# Altium schematic symbol library Sensors & MEMS.SchLib: 81 symbols (part 1 of 2)
Pins are listed as number, name and electrical type; pins without a type are passive.

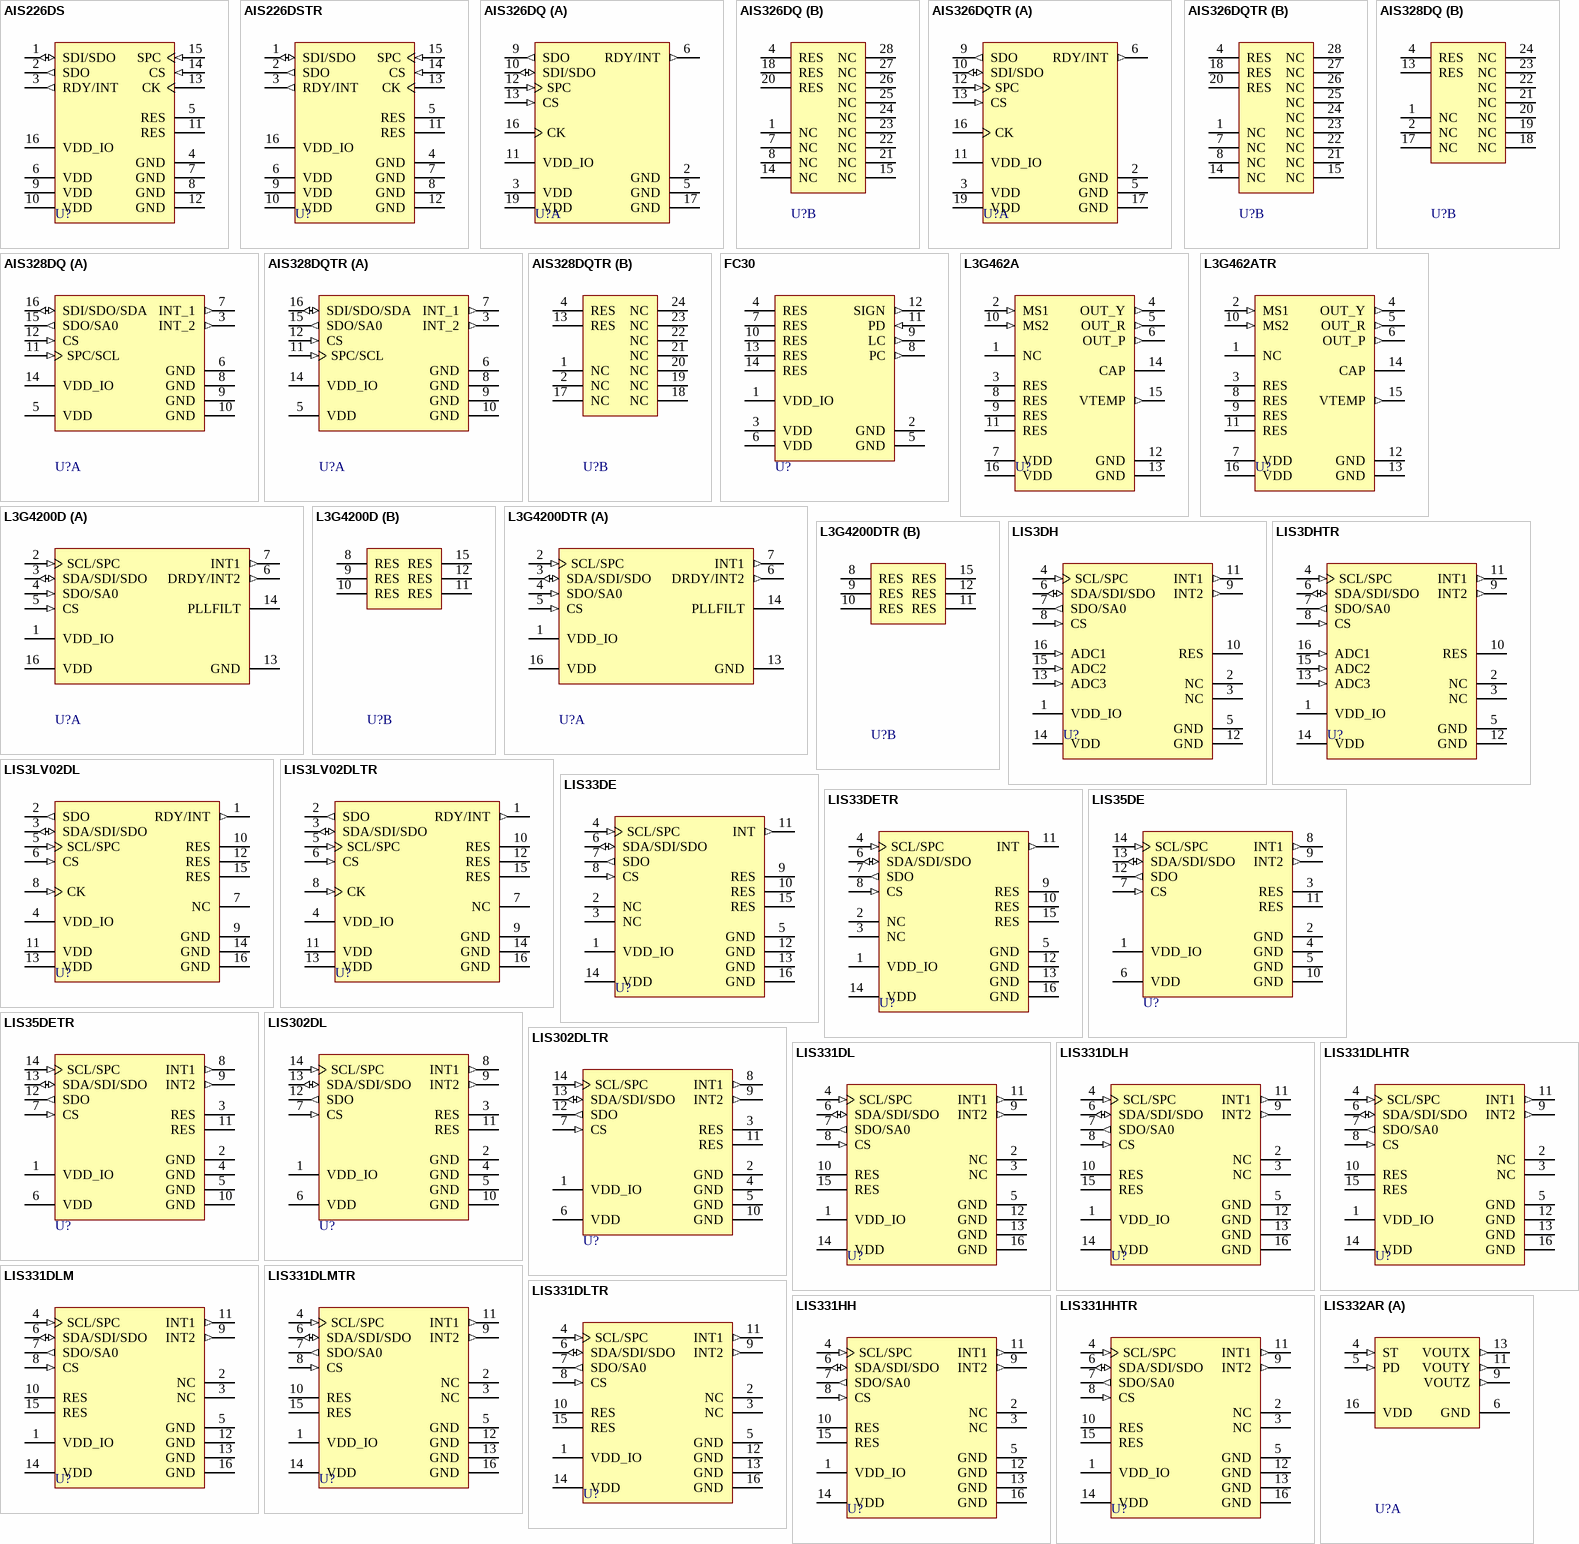
[diagram p0: symbols AIS226DS to LIS332AR]

## AIS226DS
designator U?
MEMS inertial sensor, 2-axis, low-g accelerometer with digital output, -40 to +105°C, SO-16W, Tube; Manufacturer: STMicroelectronics; DatasheetVersion: rev3, Apr-2010; PackageVersion: 2010; PackageReference: SO16W; PackageDescription: 16-Pin Small Outline Integrated Circuit 1.27 mm Pitch; Code_JEDEC: MS-013-AA; Code_IPC: SOIC127P1030-16; ComponentLink1Description: Manufacturer URL; ComponentLink1URL: http://www.st.com/; ComponentLink2Description: AIS226DS Datasheet; ComponentLink2URL: http://www.st.com/internet/com/TECHNICAL_RESOURCES/TECHNICAL_LITERATURE/DATASHEET/CD00216891.pdf; ComponentLink3Description: AIS226DS Web Page; ComponentLink3URL: http://www.st.com/internet/analog/product/219297.jsp
footprint SO16W_N (SOIC, 16-Leads, Body 10.3x7.5mm, Pitch 1.27mm, IPC Medium Density)
footprint SO16W_L (SOIC, 16-Leads, Body 10.3x7.5mm, Pitch 1.27mm, IPC High Density)
footprint SO16W_M (SOIC, 16-Leads, Body 10.3x7.5mm, Pitch 1.27mm, IPC Low Density)
pins: 1 SDI/SDO (io), 2 SDO (out), 3 RDY/INT (out), 4 GND (power), 5 RES, 6 VDD (power), 7 GND (power), 8 GND (power), 9 VDD (power), 10 VDD (power), 11 RES, 12 GND (power), 13 CK, 14 CS (in), 15 SPC (in), 16 VDD_IO (power)

## AIS226DSTR
designator U?
MEMS inertial sensor, 2-axis, low-g accelerometer with digital output, -40 to +105°C, SO-16W, Tape and Reel; Manufacturer: STMicroelectronics; DatasheetVersion: rev3, Apr-2010; PackageVersion: 2010; PackageReference: SO16W; PackageDescription: 16-Pin Small Outline Integrated Circuit 1.27 mm Pitch; Code_JEDEC: MS-013-AA; Code_IPC: SOIC127P1030-16; ComponentLink1Description: Manufacturer URL; ComponentLink1URL: http://www.st.com/; ComponentLink2Description: AIS226DS Datasheet; ComponentLink2URL: http://www.st.com/internet/com/TECHNICAL_RESOURCES/TECHNICAL_LITERATURE/DATASHEET/CD00216891.pdf; ComponentLink3Description: AIS226DS Web Page; ComponentLink3URL: http://www.st.com/internet/analog/product/219297.jsp
footprint SO16W_N (SOIC, 16-Leads, Body 10.3x7.5mm, Pitch 1.27mm, IPC Medium Density)
footprint SO16W_L (SOIC, 16-Leads, Body 10.3x7.5mm, Pitch 1.27mm, IPC High Density)
footprint SO16W_M (SOIC, 16-Leads, Body 10.3x7.5mm, Pitch 1.27mm, IPC Low Density)
pins: 1 SDI/SDO (io), 2 SDO (out), 3 RDY/INT (out), 4 GND (power), 5 RES, 6 VDD (power), 7 GND (power), 8 GND (power), 9 VDD (power), 10 VDD (power), 11 RES, 12 GND (power), 13 CK, 14 CS (in), 15 SPC (in), 16 VDD_IO (power)

## AIS326DQ
designator U?
MEMS inertial sensor, 3-axis, low-g accelerometer with digital output, -40 to +105°C, QFPN-28 (7x7x1.9), Tray; Manufacturer: STMicroelectronics; DatasheetVersion: rev4, Jun-2010; PackageVersion: 2010; PackageReference: QFPN28-7X7X1.8; PackageDescription: 28-Pin Quad Flat No-Lead, 7 x 7 x 1.8 mm Body, 0.8 mm Pitch; ComponentLink1Description: Manufacturer URL; ComponentLink1URL: http://www.st.com/; ComponentLink2Description: AIS326DQ Datasheet; ComponentLink2URL: http://www.st.com/internet/com/TECHNICAL_RESOURCES/TECHNICAL_LITERATURE/DATASHEET/CD00207961.pdf; ComponentLink3Description: AIS326DQ Web Page; ComponentLink3URL: http://www.st.com/internet/analog/product/217375.jsp
footprint QFPN28-7X7X1.9_N (PQFN, 28-Leads, Body 7x7mm, Pitch 0.8mm, Thermal Pad 5.1x5.1mm, IPC Medium Density)
footprint QFPN28-7X7X1.9_L (PQFN, 28-Leads, Body 7x7mm, Pitch 0.8mm, Thermal Pad 5.1x5.1mm, IPC High Density)
footprint QFPN28-7X7X1.9_M (PQFN, 28-Leads, Body 7x7mm, Pitch 0.8mm, Thermal Pad 5.1x5.1mm, IPC Low Density)
part A pins: 2 GND (power), 3 VDD (power), 5 GND (power), 6 RDY/INT (out), 9 SDO (out), 10 SDI/SDO (io), 11 VDD_IO (power), 12 SPC (in), 13 CS (in), 16 CK, 17 GND (power), 19 VDD (power)
part B pins: 1 NC, 4 RES, 7 NC, 8 NC, 14 NC, 15 NC, 18 RES, 20 RES, 21 NC, 22 NC, 23 NC, 24 NC, 25 NC, 26 NC, 27 NC, 28 NC

## AIS326DQTR
designator U?
MEMS inertial sensor, 3-axis, low-g accelerometer with digital output, -40 to +105°C, QFPN-28 (7x7x1.9), Tape and Reel; Manufacturer: STMicroelectronics; DatasheetVersion: rev4, Jun-2010; PackageVersion: 2010; PackageReference: QFPN28-7X7X1.8; PackageDescription: 28-Pin Quad Flat No-Lead, 7 x 7 x 1.8 mm Body, 0.8 mm Pitch; ComponentLink1Description: Manufacturer URL; ComponentLink1URL: http://www.st.com/; ComponentLink2Description: AIS326DQ Datasheet; ComponentLink2URL: http://www.st.com/internet/com/TECHNICAL_RESOURCES/TECHNICAL_LITERATURE/DATASHEET/CD00207961.pdf; ComponentLink3Description: AIS326DQ Web Page; ComponentLink3URL: http://www.st.com/internet/analog/product/217375.jsp
footprint QFPN28-7X7X1.9_N (PQFN, 28-Leads, Body 7x7mm, Pitch 0.8mm, Thermal Pad 5.1x5.1mm, IPC Medium Density)
footprint QFPN28-7X7X1.9_L (PQFN, 28-Leads, Body 7x7mm, Pitch 0.8mm, Thermal Pad 5.1x5.1mm, IPC High Density)
footprint QFPN28-7X7X1.9_M (PQFN, 28-Leads, Body 7x7mm, Pitch 0.8mm, Thermal Pad 5.1x5.1mm, IPC Low Density)
part A pins: 2 GND (power), 3 VDD (power), 5 GND (power), 6 RDY/INT (out), 9 SDO (out), 10 SDI/SDO (io), 11 VDD_IO (power), 12 SPC (in), 13 CS (in), 16 CK, 17 GND (power), 19 VDD (power)
part B pins: 1 NC, 4 RES, 7 NC, 8 NC, 14 NC, 15 NC, 18 RES, 20 RES, 21 NC, 22 NC, 23 NC, 24 NC, 25 NC, 26 NC, 27 NC, 28 NC

## AIS328DQ
designator U?
High-performance ultra low-power 3-axis accelerometer, -40 to +105°C, QFPN 4x4x1.8 24L, Tray; Manufacturer: STMicroelectronics; DatasheetVersion: rev1, Oct-2010; PackageVersion: 2010; PackageReference: QFPN24-4X4X1.8; PackageDescription: 24-Pin Quad Flat Package No-Lead, 4 x 4 x 1.8 mm Body, 0.5 mm Pitch; ComponentLink1Description: Manufacturer URL; ComponentLink1URL: http://www.st.com/; ComponentLink2Description: AIS328DQ Datasheet; ComponentLink2URL: http://www.st.com/internet/com/TECHNICAL_RESOURCES/TECHNICAL_LITERATURE/DATASHEET/CD00289364.pdf; ComponentLink3Description: AIS328DQ Web Page; ComponentLink3URL: http://www.st.com/internet/analog/product/251153.jsp
footprint QFPN24-4X4X1.8_N (QFN, 24-Leads, Body 4x4mm, Pitch 0.5mm, Thermal Pad 2.4x2.4mm, IPC Medium Density)
footprint QFPN24-4X4X1.8_L (QFN, 24-Leads, Body 4x4mm, Pitch 0.5mm, Thermal Pad 2.4x2.4mm, IPC High Density)
footprint QFPN24-4X4X1.8_M (QFN, 24-Leads, Body 4x4mm, Pitch 0.5mm, Thermal Pad 2.4x2.4mm, IPC Low Density)
part A pins: 3 INT_2 (out), 5 VDD (power), 6 GND (power), 7 INT_1 (out), 8 GND (power), 9 GND (power), 10 GND (power), 11 SPC/SCL (in), 12 CS (in), 14 VDD_IO (power), 15 SDO/SA0 (out), 16 SDI/SDO/SDA (io)
part B pins: 1 NC, 2 NC, 4 RES, 13 RES, 17 NC, 18 NC, 19 NC, 20 NC, 21 NC, 22 NC, 23 NC, 24 NC

## AIS328DQTR
designator U?
High-performance ultra low-power 3-axis accelerometer, -40 to +105°C, QFPN 4x4x1.8 24L, Tape and Reel; Manufacturer: STMicroelectronics; DatasheetVersion: rev1, Oct-2010; PackageVersion: 2010; PackageReference: QFPN24-4X4X1.8; PackageDescription: 24-Pin Quad Flat Package No-Lead, 4 x 4 x 1.8 mm Body, 0.5 mm Pitch; ComponentLink1Description: Manufacturer URL; ComponentLink1URL: http://www.st.com/; ComponentLink2Description: AIS328DQ Datasheet; ComponentLink2URL: http://www.st.com/internet/com/TECHNICAL_RESOURCES/TECHNICAL_LITERATURE/DATASHEET/CD00289364.pdf; ComponentLink3Description: AIS328DQ Web Page; ComponentLink3URL: http://www.st.com/internet/analog/product/251153.jsp
footprint QFPN24-4X4X1.8_N (QFN, 24-Leads, Body 4x4mm, Pitch 0.5mm, Thermal Pad 2.4x2.4mm, IPC Medium Density)
footprint QFPN24-4X4X1.8_L (QFN, 24-Leads, Body 4x4mm, Pitch 0.5mm, Thermal Pad 2.4x2.4mm, IPC High Density)
footprint QFPN24-4X4X1.8_M (QFN, 24-Leads, Body 4x4mm, Pitch 0.5mm, Thermal Pad 2.4x2.4mm, IPC Low Density)
part A pins: 3 INT_2 (out), 5 VDD (power), 6 GND (power), 7 INT_1 (out), 8 GND (power), 9 GND (power), 10 GND (power), 11 SPC/SCL (in), 12 CS (in), 14 VDD_IO (power), 15 SDO/SA0 (out), 16 SDI/SDO/SDA (io)
part B pins: 1 NC, 2 NC, 4 RES, 13 RES, 17 NC, 18 NC, 19 NC, 20 NC, 21 NC, 22 NC, 23 NC, 24 NC

## FC30
designator U?
MEMS functional sensor; smart 3D orientation and click detection standalone device, -40 to +85°C, LGA-14 (3x5x0.92), Tray; Manufacturer: STMicroelectronics; DatasheetVersion: rev2, Feb-2010; PackageVersion: 2010; PackageReference: LGA14-3X5X0.92; PackageDescription: 14-Lead Land Grid Array Package, 5 x 3 x 0.92 mm Body, 0.8 mm Pitch; ComponentLink1Description: Manufacturer URL; ComponentLink1URL: http://www.st.com/; ComponentLink2Description: FC30 Datasheet; ComponentLink2URL: http://www.st.com/internet/com/TECHNICAL_RESOURCES/TECHNICAL_LITERATURE/DATASHEET/CD00199092.pdf; ComponentLink3Description: FC30 Web Page; ComponentLink3URL: http://www.st.com/internet/analog/product/215811.jsp
footprint LGA14-3X5X0.92_N (PQFN, 14-Leads, Body 3x5mm, Pitch 0.8mm, IPC Medium Density)
footprint LGA14-3X5X0.92_L (PQFN, 14-Leads, Body 3x5mm, Pitch 0.8mm, IPC High Density)
footprint LGA14-3X5X0.92_M (PQFN, 14-Leads, Body 3x5mm, Pitch 0.8mm, IPC Low Density)
pins: 1 VDD_IO (power), 2 GND (power), 3 VDD (power), 4 RES, 5 GND (power), 6 VDD (power), 7 RES, 8 PC (out), 9 LC (out), 10 RES, 11 PD (in), 12 SIGN (out), 13 RES, 14 RES

## L3G462A
designator U?
MEMS motion sensor: ± 625 dps full scale 3-axis analog gyroscope, -40 to +85°C, LGA-16 (4x4x1.1), Tray; Manufacturer: STMicroelectronics; DatasheetVersion: rev1, Mar-2011; PackageVersion: 2010; PackageReference: LGA16-4X4X1.1; PackageDescription: 16-Pin Land Grid Array Package, 4 x 4 x 1.1 mm Body, 0.65 mm Pitch; ComponentLink1Description: Manufacturer URL; ComponentLink1URL: http://www.st.com/; ComponentLink2Description: L3G462A Datasheet; ComponentLink2URL: http://www.st.com/internet/com/TECHNICAL_RESOURCES/TECHNICAL_LITERATURE/DATASHEET/DM00024645.pdf; ComponentLink3Description: L3G462A Web Page; ComponentLink3URL: http://www.st.com/internet/analog/product/251793.jsp
footprint LGA16-4X4X1.1_N (PQFN, 16-Leads, Body 4x4mm, Pitch 0.65mm, IPC Medium Density)
footprint LGA16-4X4X1.1_L (PQFN, 16-Leads, Body 4x4mm, Pitch 0.65mm, IPC High Density)
footprint LGA16-4X4X1.1_M (PQFN, 16-Leads, Body 4x4mm, Pitch 0.65mm, IPC Low Density)
pins: 1 NC, 2 MS1 (in), 3 RES, 4 OUT_Y (out), 5 OUT_R (out), 6 OUT_P (out), 7 VDD (power), 8 RES, 9 RES, 10 MS2 (in), 11 RES, 12 GND (power), 13 GND (power), 14 CAP, 15 VTEMP (out), 16 VDD (power)

## L3G462ATR
designator U?
MEMS motion sensor: ± 625 dps full scale 3-axis analog gyroscope, -40 to +85°C, LGA-16 (4x4x1.1), Tape and Reel; Manufacturer: STMicroelectronics; DatasheetVersion: rev1, Mar-2011; PackageVersion: 2010; PackageReference: LGA16-4X4X1.1; PackageDescription: 16-Pin Land Grid Array Package, 4 x 4 x 1.1 mm Body, 0.65 mm Pitch; ComponentLink1Description: Manufacturer URL; ComponentLink1URL: http://www.st.com/; ComponentLink2Description: L3G462A Datasheet; ComponentLink2URL: http://www.st.com/internet/com/TECHNICAL_RESOURCES/TECHNICAL_LITERATURE/DATASHEET/DM00024645.pdf; ComponentLink3Description: L3G462A Web Page; ComponentLink3URL: http://www.st.com/internet/analog/product/251793.jsp
footprint LGA16-4X4X1.1_N (PQFN, 16-Leads, Body 4x4mm, Pitch 0.65mm, IPC Medium Density)
footprint LGA16-4X4X1.1_L (PQFN, 16-Leads, Body 4x4mm, Pitch 0.65mm, IPC High Density)
footprint LGA16-4X4X1.1_M (PQFN, 16-Leads, Body 4x4mm, Pitch 0.65mm, IPC Low Density)
pins: 1 NC, 2 MS1 (in), 3 RES, 4 OUT_Y (out), 5 OUT_R (out), 6 OUT_P (out), 7 VDD (power), 8 RES, 9 RES, 10 MS2 (in), 11 RES, 12 GND (power), 13 GND (power), 14 CAP, 15 VTEMP (out), 16 VDD (power)

## L3G4200D
designator U?
MEMS motion sensor: ultra-stable three-axis digital output gyroscope, -40 to +85°C, LGA-16 (4x4x1.1), Tray; Manufacturer: STMicroelectronics; DatasheetVersion: rev3, Dec-2010; PackageVersion: 2010; PackageReference: LGA16-4X4X1.1; PackageDescription: 16-Pin Land Grid Array Package, 4 x 4 x 1.1 mm Body, 0.65 mm Pitch; ComponentLink1Description: Manufacturer URL; ComponentLink1URL: http://www.st.com/; ComponentLink2Description: L3G4200D Datasheet; ComponentLink2URL: http://www.st.com/internet/com/TECHNICAL_RESOURCES/TECHNICAL_LITERATURE/DATASHEET/CD00265057.pdf; ComponentLink3Description: L3G4200D Web Page; ComponentLink3URL: http://www.st.com/internet/analog/product/250373.jsp
footprint LGA16-4X4X1.1_N (PQFN, 16-Leads, Body 4x4mm, Pitch 0.65mm, IPC Medium Density)
footprint LGA16-4X4X1.1_L (PQFN, 16-Leads, Body 4x4mm, Pitch 0.65mm, IPC High Density)
footprint LGA16-4X4X1.1_M (PQFN, 16-Leads, Body 4x4mm, Pitch 0.65mm, IPC Low Density)
part A pins: 1 VDD_IO (power), 2 SCL/SPC (in), 3 SDA/SDI/SDO (io), 4 SDO/SA0 (in), 5 CS (in), 6 DRDY/INT2 (out), 7 INT1 (out), 13 GND (power), 14 PLLFILT, 16 VDD (power)
part B pins: 8 RES, 9 RES, 10 RES, 11 RES, 12 RES, 15 RES

## L3G4200DTR
designator U?
MEMS motion sensor: ultra-stable three-axis digital output gyroscope, -40 to +85°C, LGA-16 (4x4x1.1), Tape and Reel; Manufacturer: STMicroelectronics; DatasheetVersion: rev3, Dec-2010; PackageVersion: 2010; PackageReference: LGA16-4X4X1.1; PackageDescription: 16-Pin Land Grid Array Package, 4 x 4 x 1.1 mm Body, 0.65 mm Pitch; ComponentLink1Description: Manufacturer URL; ComponentLink1URL: http://www.st.com/; ComponentLink2Description: L3G4200D Datasheet; ComponentLink2URL: http://www.st.com/internet/com/TECHNICAL_RESOURCES/TECHNICAL_LITERATURE/DATASHEET/CD00265057.pdf; ComponentLink3Description: L3G4200D Web Page; ComponentLink3URL: http://www.st.com/internet/analog/product/250373.jsp
footprint LGA16-4X4X1.1_N (PQFN, 16-Leads, Body 4x4mm, Pitch 0.65mm, IPC Medium Density)
footprint LGA16-4X4X1.1_L (PQFN, 16-Leads, Body 4x4mm, Pitch 0.65mm, IPC High Density)
footprint LGA16-4X4X1.1_M (PQFN, 16-Leads, Body 4x4mm, Pitch 0.65mm, IPC Low Density)
part A pins: 1 VDD_IO (power), 2 SCL/SPC (in), 3 SDA/SDI/SDO (io), 4 SDO/SA0 (in), 5 CS (in), 6 DRDY/INT2 (out), 7 INT1 (out), 13 GND (power), 14 PLLFILT, 16 VDD (power)
part B pins: 8 RES, 9 RES, 10 RES, 11 RES, 12 RES, 15 RES

## LIS3DH
designator U?
MEMS digital output motion sensor: Ultra low-power high performance 3-axis nano accelerometer, -40 to +85°C, LGA-16 (3x3x1), Tray; Manufacturer: STMicroelectronics; DatasheetVersion: rev1, May-2010; PackageVersion: 2008; PackageReference: LGA16-3X3X1; PackageDescription: 16-Pin Land Grid Array, 3 x 3 x 1 mm Body, 0.5 mm Pitch; ComponentLink1Description: Manufacturer URL; ComponentLink1URL: http://www.st.com/; ComponentLink2Description: LIS3DH Datasheet; ComponentLink2URL: http://www.st.com/internet/com/TECHNICAL_RESOURCES/TECHNICAL_LITERATURE/DATASHEET/CD00274221.pdf; ComponentLink3Description: LIS3DH Web Page; ComponentLink3URL: http://www.st.com/internet/analog/product/250725.jsp
footprint LGA16-3X3X1_N (PQFN, 16-Leads, Body 3x3mm, Pitch 0.5mm, IPC Medium Density)
footprint LGA16-3X3X1_L (PQFN, 16-Leads, Body 3x3mm, Pitch 0.5mm, IPC High Density)
footprint LGA16-3X3X1_M (PQFN, 16-Leads, Body 3x3mm, Pitch 0.5mm, IPC Low Density)
pins: 1 VDD_IO (power), 2 NC, 3 NC, 4 SCL/SPC (in), 5 GND (power), 6 SDA/SDI/SDO (io), 7 SDO/SA0 (out), 8 CS (in), 9 INT2 (out), 10 RES, 11 INT1 (out), 12 GND (power), 13 ADC3 (in), 14 VDD (power), 15 ADC2 (in), 16 ADC1 (in)

## LIS3DHTR
designator U?
MEMS digital output motion sensor: Ultra low-power high performance 3-axis nano accelerometer, -40 to +85°C, LGA-16 (3x3x1), Tape and Reel; Manufacturer: STMicroelectronics; DatasheetVersion: rev1, May-2010; PackageVersion: 2008; PackageReference: LGA16-3X3X1; PackageDescription: 16-Pin Land Grid Array, 3 x 3 x 1 mm Body, 0.5 mm Pitch; ComponentLink1Description: Manufacturer URL; ComponentLink1URL: http://www.st.com/; ComponentLink2Description: LIS3DH Datasheet; ComponentLink2URL: http://www.st.com/internet/com/TECHNICAL_RESOURCES/TECHNICAL_LITERATURE/DATASHEET/CD00274221.pdf; ComponentLink3Description: LIS3DH Web Page; ComponentLink3URL: http://www.st.com/internet/analog/product/250725.jsp
footprint LGA16-3X3X1_N (PQFN, 16-Leads, Body 3x3mm, Pitch 0.5mm, IPC Medium Density)
footprint LGA16-3X3X1_L (PQFN, 16-Leads, Body 3x3mm, Pitch 0.5mm, IPC High Density)
footprint LGA16-3X3X1_M (PQFN, 16-Leads, Body 3x3mm, Pitch 0.5mm, IPC Low Density)
pins: 1 VDD_IO (power), 2 NC, 3 NC, 4 SCL/SPC (in), 5 GND (power), 6 SDA/SDI/SDO (io), 7 SDO/SA0 (out), 8 CS (in), 9 INT2 (out), 10 RES, 11 INT1 (out), 12 GND (power), 13 ADC3 (in), 14 VDD (power), 15 ADC2 (in), 16 ADC1 (in)

## LIS3LV02DL
designator U?
MEMS inertial sensor: 3-axis ± 2g/± 6g digital output low voltage linear accelerometer, -40 to +85°C, LGA-16 (4.4x7.5x1), Tray; Manufacturer: STMicroelectronics; DatasheetVersion: rev2, Jan-2008; PackageVersion: 2008; PackageReference: LGA16-4.4X7.5X1; PackageDescription: 16-Lead Land Grid Array Package, 7.5 x 4.4 x 1 mm Body, 1 mm Pitch; ComponentLink1Description: Manufacturer URL; ComponentLink1URL: http://www.st.com/; ComponentLink2Description: LIS3LV02DL Datasheet; ComponentLink2URL: http://www.st.com/internet/com/TECHNICAL_RESOURCES/TECHNICAL_LITERATURE/DATASHEET/CD00091417.pdf; ComponentLink3Description: LIS3LV02DL Web Page; ComponentLink3URL: http://www.st.com/internet/analog/product/127514.jsp
footprint LGA16-4.4X7.5X1_N (PQFN, 16-Leads, Body 4.4x7.5mm, Pitch 1mm, IPC Medium Density)
footprint LGA16-4.4X7.5X1_L (PQFN, 16-Leads, Body 4.4x7.5mm, Pitch 1mm, IPC High Density)
footprint LGA16-4.4X7.5X1_M (PQFN, 16-Leads, Body 4.4x7.5mm, Pitch 1mm, IPC Low Density)
pins: 1 RDY/INT (out), 2 SDO (out), 3 SDA/SDI/SDO (io), 4 VDD_IO (power), 5 SCL/SPC (in), 6 CS (in), 7 NC, 8 CK (in), 9 GND (power), 10 RES, 11 VDD (power), 12 RES, 13 VDD (power), 14 GND (power), 15 RES, 16 GND (power)

## LIS3LV02DLTR
designator U?
MEMS inertial sensor: 3-axis ± 2g/± 6g digital output low voltage linear accelerometer, -40 to +85°C, LGA-16 (4.4x7.5x1), Tape and Reel; Manufacturer: STMicroelectronics; DatasheetVersion: rev2, Jan-2008; PackageVersion: 2008; PackageReference: LGA16-4.4X7.5X1; PackageDescription: 16-Lead Land Grid Array Package, 7.5 x 4.4 x 1 mm Body, 1 mm Pitch; ComponentLink1Description: Manufacturer URL; ComponentLink1URL: http://www.st.com/; ComponentLink2Description: LIS3LV02DL Datasheet; ComponentLink2URL: http://www.st.com/internet/com/TECHNICAL_RESOURCES/TECHNICAL_LITERATURE/DATASHEET/CD00091417.pdf; ComponentLink3Description: LIS3LV02DL Web Page; ComponentLink3URL: http://www.st.com/internet/analog/product/127514.jsp
footprint LGA16-4.4X7.5X1_N (PQFN, 16-Leads, Body 4.4x7.5mm, Pitch 1mm, IPC Medium Density)
footprint LGA16-4.4X7.5X1_L (PQFN, 16-Leads, Body 4.4x7.5mm, Pitch 1mm, IPC High Density)
footprint LGA16-4.4X7.5X1_M (PQFN, 16-Leads, Body 4.4x7.5mm, Pitch 1mm, IPC Low Density)
pins: 1 RDY/INT (out), 2 SDO (out), 3 SDA/SDI/SDO (io), 4 VDD_IO (power), 5 SCL/SPC (in), 6 CS (in), 7 NC, 8 CK (in), 9 GND (power), 10 RES, 11 VDD (power), 12 RES, 13 VDD (power), 14 GND (power), 15 RES, 16 GND (power)

## LIS33DE
designator U?
MEMS motion sensor: 3-axis ± 2g/± 8g smart digital output nano accelerometer, -40 to +85°C, LGA-16 (3x3x1), Tray; Manufacturer: STMicroelectronics; DatasheetVersion: rev1, Apr-2009; PackageVersion: 2008; PackageReference: LGA16-3X3X1; PackageDescription: 16-Pin Land Grid Array, 3 x 3 x 1 mm Body, 0.5 mm Pitch; ComponentLink1Description: Manufacturer URL; ComponentLink1URL: http://www.st.com/; ComponentLink2Description: LIS33DE Datasheet; ComponentLink2URL: http://www.st.com/internet/com/TECHNICAL_RESOURCES/TECHNICAL_LITERATURE/DATASHEET/CD00231435.pdf; ComponentLink3Description: LIS33DE Web Page; ComponentLink3URL: http://www.st.com/internet/analog/product/217372.jsp
footprint LGA16-3X3X1_N (PQFN, 16-Leads, Body 3x3mm, Pitch 0.5mm, IPC Medium Density)
footprint LGA16-3X3X1_L (PQFN, 16-Leads, Body 3x3mm, Pitch 0.5mm, IPC High Density)
footprint LGA16-3X3X1_M (PQFN, 16-Leads, Body 3x3mm, Pitch 0.5mm, IPC Low Density)
pins: 1 VDD_IO (power), 2 NC, 3 NC, 4 SCL/SPC (in), 5 GND (power), 6 SDA/SDI/SDO (io), 7 SDO (out), 8 CS (in), 9 RES, 10 RES, 11 INT (out), 12 GND (power), 13 GND (power), 14 VDD (power), 15 RES, 16 GND (power)

## LIS33DETR
designator U?
MEMS motion sensor: 3-axis ± 2g/± 8g smart digital output nano accelerometer, -40 to +85°C, LGA-16 (3x3x1), Tape and Reel; Manufacturer: STMicroelectronics; DatasheetVersion: rev1, Apr-2009; PackageVersion: 2008; PackageReference: LGA16-3X3X1; PackageDescription: 16-Pin Land Grid Array, 3 x 3 x 1 mm Body, 0.5 mm Pitch; ComponentLink1Description: Manufacturer URL; ComponentLink1URL: http://www.st.com/; ComponentLink2Description: LIS33DE Datasheet; ComponentLink2URL: http://www.st.com/internet/com/TECHNICAL_RESOURCES/TECHNICAL_LITERATURE/DATASHEET/CD00231435.pdf; ComponentLink3Description: LIS33DE Web Page; ComponentLink3URL: http://www.st.com/internet/analog/product/217372.jsp
footprint LGA16-3X3X1_N (PQFN, 16-Leads, Body 3x3mm, Pitch 0.5mm, IPC Medium Density)
footprint LGA16-3X3X1_L (PQFN, 16-Leads, Body 3x3mm, Pitch 0.5mm, IPC High Density)
footprint LGA16-3X3X1_M (PQFN, 16-Leads, Body 3x3mm, Pitch 0.5mm, IPC Low Density)
pins: 1 VDD_IO (power), 2 NC, 3 NC, 4 SCL/SPC (in), 5 GND (power), 6 SDA/SDI/SDO (io), 7 SDO (out), 8 CS (in), 9 RES, 10 RES, 11 INT (out), 12 GND (power), 13 GND (power), 14 VDD (power), 15 RES, 16 GND (power)

## LIS35DE
designator U?
MEMS motion sensor: 3-axis ± 2g/± 8g smart digital output piccolo accelerometer, -40 to +85°C, LGA-14 (3x5x1), Tray; Manufacturer: STMicroelectronics; DatasheetVersion: rev1, Apr-2009; PackageVersion: 2011; PackageReference: LGA14-3X5X1; PackageDescription: 14-Lead Land Grid Array Package, 5 x 3 x 1 mm Body, 0.8 mm Pitch; ComponentLink1Description: Manufacturer URL; ComponentLink1URL: http://www.st.com/; ComponentLink2Description: LIS35DE Datasheet; ComponentLink2URL: http://www.st.com/internet/com/TECHNICAL_RESOURCES/TECHNICAL_LITERATURE/DATASHEET/CD00231405.pdf; ComponentLink3Description: LIS35DE Web Page; ComponentLink3URL: http://www.st.com/internet/analog/product/217373.jsp
footprint LGA14-3X5X1_N (PQFN, 14-Leads, Body 3x5mm, Pitch 0.8mm, IPC Medium Density)
footprint LGA14-3X5X1_L (PQFN, 14-Leads, Body 3x5mm, Pitch 0.8mm, IPC High Density)
footprint LGA14-3X5X1_M (PQFN, 14-Leads, Body 3x5mm, Pitch 0.8mm, IPC Low Density)
pins: 1 VDD_IO (power), 2 GND (power), 3 RES, 4 GND (power), 5 GND (power), 6 VDD (power), 7 CS (in), 8 INT1 (out), 9 INT2 (out), 10 GND (power), 11 RES, 12 SDO (out), 13 SDA/SDI/SDO (io), 14 SCL/SPC (in)

## LIS35DETR
designator U?
MEMS motion sensor: 3-axis ± 2g/± 8g smart digital output piccolo accelerometer, -40 to +85°C, LGA-14 (3x5x1), Tape and Reel; Manufacturer: STMicroelectronics; DatasheetVersion: rev1, Apr-2009; PackageVersion: 2011; PackageReference: LGA14-3X5X1; PackageDescription: 14-Lead Land Grid Array Package, 5 x 3 x 1 mm Body, 0.8 mm Pitch; ComponentLink1Description: Manufacturer URL; ComponentLink1URL: http://www.st.com/; ComponentLink2Description: LIS35DE Datasheet; ComponentLink2URL: http://www.st.com/internet/com/TECHNICAL_RESOURCES/TECHNICAL_LITERATURE/DATASHEET/CD00231405.pdf; ComponentLink3Description: LIS35DE Web Page; ComponentLink3URL: http://www.st.com/internet/analog/product/217373.jsp
footprint LGA14-3X5X1_N (PQFN, 14-Leads, Body 3x5mm, Pitch 0.8mm, IPC Medium Density)
footprint LGA14-3X5X1_L (PQFN, 14-Leads, Body 3x5mm, Pitch 0.8mm, IPC High Density)
footprint LGA14-3X5X1_M (PQFN, 14-Leads, Body 3x5mm, Pitch 0.8mm, IPC Low Density)
pins: 1 VDD_IO (power), 2 GND (power), 3 RES, 4 GND (power), 5 GND (power), 6 VDD (power), 7 CS (in), 8 INT1 (out), 9 INT2 (out), 10 GND (power), 11 RES, 12 SDO (out), 13 SDA/SDI/SDO (io), 14 SCL/SPC (in)

## LIS302DL
designator U?
MEMS motion sensor 3-axis - ± 2g/± 8g smart digital output piccolo accelerometer, -40 to +85°C, LGA-14 (3x5x1), Tray; Manufacturer: STMicroelectronics; DatasheetVersion: rev4, Oct-2008; PackageVersion: 2011; PackageReference: LGA14-3X5X1; PackageDescription: 14-Lead Land Grid Array Package, 5 x 3 x 1 mm Body, 0.8 mm Pitch; ComponentLink1Description: Manufacturer URL; ComponentLink1URL: http://www.st.com/; ComponentLink2Description: LIS302DL Datasheet; ComponentLink2URL: http://www.st.com/internet/com/TECHNICAL_RESOURCES/TECHNICAL_LITERATURE/DATASHEET/CD00135460.pdf; ComponentLink3Description: LIS302DL Web Page; ComponentLink3URL: http://www.st.com/internet/analog/product/152913.jsp
footprint LGA14-3X5X1_N (PQFN, 14-Leads, Body 3x5mm, Pitch 0.8mm, IPC Medium Density)
footprint LGA14-3X5X1_L (PQFN, 14-Leads, Body 3x5mm, Pitch 0.8mm, IPC High Density)
footprint LGA14-3X5X1_M (PQFN, 14-Leads, Body 3x5mm, Pitch 0.8mm, IPC Low Density)
pins: 1 VDD_IO (power), 2 GND (power), 3 RES, 4 GND (power), 5 GND (power), 6 VDD (power), 7 CS (in), 8 INT1 (out), 9 INT2 (out), 10 GND (power), 11 RES, 12 SDO (out), 13 SDA/SDI/SDO (io), 14 SCL/SPC (in)

## LIS302DLTR
designator U?
MEMS motion sensor 3-axis - ± 2g/± 8g smart digital output piccolo accelerometer, -40 to +85°C, LGA-14 (3x5x1), Tape and Reel; Manufacturer: STMicroelectronics; DatasheetVersion: rev4, Oct-2008; PackageVersion: 2011; PackageReference: LGA14-3X5X1; PackageDescription: 14-Lead Land Grid Array Package, 5 x 3 x 1 mm Body, 0.8 mm Pitch; ComponentLink1Description: Manufacturer URL; ComponentLink1URL: http://www.st.com/; ComponentLink2Description: LIS302DL Datasheet; ComponentLink2URL: http://www.st.com/internet/com/TECHNICAL_RESOURCES/TECHNICAL_LITERATURE/DATASHEET/CD00135460.pdf; ComponentLink3Description: LIS302DL Web Page; ComponentLink3URL: http://www.st.com/internet/analog/product/152913.jsp
footprint LGA14-3X5X1_N (PQFN, 14-Leads, Body 3x5mm, Pitch 0.8mm, IPC Medium Density)
footprint LGA14-3X5X1_L (PQFN, 14-Leads, Body 3x5mm, Pitch 0.8mm, IPC High Density)
footprint LGA14-3X5X1_M (PQFN, 14-Leads, Body 3x5mm, Pitch 0.8mm, IPC Low Density)
pins: 1 VDD_IO (power), 2 GND (power), 3 RES, 4 GND (power), 5 GND (power), 6 VDD (power), 7 CS (in), 8 INT1 (out), 9 INT2 (out), 10 GND (power), 11 RES, 12 SDO (out), 13 SDA/SDI/SDO (io), 14 SCL/SPC (in)

## LIS331DL
designator U?
MEMS motion sensor 3-axis - ± 2g/± 8g smart digital output nano accelerometer, -40 to +85°C, LGA-16 (3x3x1), Tray; Manufacturer: STMicroelectronics; DatasheetVersion: rev3, Apr-2008; PackageVersion: 2008; PackageReference: LGA16-3X3X1; PackageDescription: 16-Pin Land Grid Array, 3 x 3 x 1 mm Body, 0.5 mm Pitch; ComponentLink1Description: Manufacturer URL; ComponentLink1URL: http://www.st.com/; ComponentLink2Description: LIS331DL Datasheet; ComponentLink2URL: http://www.st.com/internet/com/TECHNICAL_RESOURCES/TECHNICAL_LITERATURE/DATASHEET/CD00172345.pdf; ComponentLink3Description: LIS331DL Web Page; ComponentLink3URL: http://www.st.com/internet/analog/product/191236.jsp
footprint LGA16-3X3X1_N (PQFN, 16-Leads, Body 3x3mm, Pitch 0.5mm, IPC Medium Density)
footprint LGA16-3X3X1_L (PQFN, 16-Leads, Body 3x3mm, Pitch 0.5mm, IPC High Density)
footprint LGA16-3X3X1_M (PQFN, 16-Leads, Body 3x3mm, Pitch 0.5mm, IPC Low Density)
pins: 1 VDD_IO (power), 2 NC, 3 NC, 4 SCL/SPC (in), 5 GND (power), 6 SDA/SDI/SDO (io), 7 SDO/SA0 (out), 8 CS (in), 9 INT2 (out), 10 RES, 11 INT1 (out), 12 GND (power), 13 GND (power), 14 VDD (power), 15 RES, 16 GND (power)

## LIS331DLH
designator U?
MEMS motion sensor: Ultra low power high performance 3-axis nano accelerometer, -40 to +85°C, LGA-16 (3x3x1), Tray; Manufacturer: STMicroelectronics; DatasheetVersion: rev3, Jul-2009; PackageVersion: 2008; PackageReference: LGA16-3X3X1; PackageDescription: 16-Pin Land Grid Array, 3 x 3 x 1 mm Body, 0.5 mm Pitch; ComponentLink1Description: Manufacturer URL; ComponentLink1URL: http://www.st.com/; ComponentLink2Description: LIS331DLH Datasheet; ComponentLink2URL: http://www.st.com/internet/com/TECHNICAL_RESOURCES/TECHNICAL_LITERATURE/DATASHEET/CD00213470.pdf; ComponentLink3Description: LIS331DLH Web Page; ComponentLink3URL: http://www.st.com/internet/analog/product/218132.jsp
footprint LGA16-3X3X1_N (PQFN, 16-Leads, Body 3x3mm, Pitch 0.5mm, IPC Medium Density)
footprint LGA16-3X3X1_L (PQFN, 16-Leads, Body 3x3mm, Pitch 0.5mm, IPC High Density)
footprint LGA16-3X3X1_M (PQFN, 16-Leads, Body 3x3mm, Pitch 0.5mm, IPC Low Density)
pins: 1 VDD_IO (power), 2 NC, 3 NC, 4 SCL/SPC (in), 5 GND (power), 6 SDA/SDI/SDO (io), 7 SDO/SA0 (out), 8 CS (in), 9 INT2 (out), 10 RES, 11 INT1 (out), 12 GND (power), 13 GND (power), 14 VDD (power), 15 RES, 16 GND (power)

## LIS331DLHTR
designator U?
MEMS motion sensor: Ultra low power high performance 3-axis nano accelerometer, -40 to +85°C, LGA-16 (3x3x1), Tape and Reel; Manufacturer: STMicroelectronics; DatasheetVersion: rev3, Jul-2009; PackageVersion: 2008; PackageReference: LGA16-3X3X1; PackageDescription: 16-Pin Land Grid Array, 3 x 3 x 1 mm Body, 0.5 mm Pitch; ComponentLink1Description: Manufacturer URL; ComponentLink1URL: http://www.st.com/; ComponentLink2Description: LIS331DLH Datasheet; ComponentLink2URL: http://www.st.com/internet/com/TECHNICAL_RESOURCES/TECHNICAL_LITERATURE/DATASHEET/CD00213470.pdf; ComponentLink3Description: LIS331DLH Web Page; ComponentLink3URL: http://www.st.com/internet/analog/product/218132.jsp
footprint LGA16-3X3X1_N (PQFN, 16-Leads, Body 3x3mm, Pitch 0.5mm, IPC Medium Density)
footprint LGA16-3X3X1_L (PQFN, 16-Leads, Body 3x3mm, Pitch 0.5mm, IPC High Density)
footprint LGA16-3X3X1_M (PQFN, 16-Leads, Body 3x3mm, Pitch 0.5mm, IPC Low Density)
pins: 1 VDD_IO (power), 2 NC, 3 NC, 4 SCL/SPC (in), 5 GND (power), 6 SDA/SDI/SDO (io), 7 SDO/SA0 (out), 8 CS (in), 9 INT2 (out), 10 RES, 11 INT1 (out), 12 GND (power), 13 GND (power), 14 VDD (power), 15 RES, 16 GND (power)

## LIS331DLM
designator U?
MEMS motion sensor: Ultra low power 8bit 3-axis digital accelerometer, -40 to +85°C, LGA-16 (3x3x1), Tray; Manufacturer: STMicroelectronics; DatasheetVersion: rev4, Jul-2009; PackageVersion: 2008; PackageReference: LGA16-3X3X1; PackageDescription: 16-Pin Land Grid Array, 3 x 3 x 1 mm Body, 0.5 mm Pitch; ComponentLink1Description: Manufacturer URL; ComponentLink1URL: http://www.st.com/; ComponentLink2Description: LIS331DLM Datasheet; ComponentLink2URL: http://www.st.com/internet/com/TECHNICAL_RESOURCES/TECHNICAL_LITERATURE/DATASHEET/CD00213611.pdf; ComponentLink3Description: LIS331DLM Web Page; ComponentLink3URL: http://www.st.com/internet/analog/product/218133.jsp
footprint LGA16-3X3X1_N (PQFN, 16-Leads, Body 3x3mm, Pitch 0.5mm, IPC Medium Density)
footprint LGA16-3X3X1_L (PQFN, 16-Leads, Body 3x3mm, Pitch 0.5mm, IPC High Density)
footprint LGA16-3X3X1_M (PQFN, 16-Leads, Body 3x3mm, Pitch 0.5mm, IPC Low Density)
pins: 1 VDD_IO (power), 2 NC, 3 NC, 4 SCL/SPC (in), 5 GND (power), 6 SDA/SDI/SDO (io), 7 SDO/SA0 (out), 8 CS (in), 9 INT2 (out), 10 RES, 11 INT1 (out), 12 GND (power), 13 GND (power), 14 VDD (power), 15 RES, 16 GND (power)

## LIS331DLMTR
designator U?
MEMS motion sensor: Ultra low power 8bit 3-axis digital accelerometer, -40 to +85°C, LGA-16 (3x3x1), Tape and Reel; Manufacturer: STMicroelectronics; DatasheetVersion: rev4, Jul-2009; PackageVersion: 2008; PackageReference: LGA16-3X3X1; PackageDescription: 16-Pin Land Grid Array, 3 x 3 x 1 mm Body, 0.5 mm Pitch; ComponentLink1Description: Manufacturer URL; ComponentLink1URL: http://www.st.com/; ComponentLink2Description: LIS331DLM Datasheet; ComponentLink2URL: http://www.st.com/internet/com/TECHNICAL_RESOURCES/TECHNICAL_LITERATURE/DATASHEET/CD00213611.pdf; ComponentLink3Description: LIS331DLM Web Page; ComponentLink3URL: http://www.st.com/internet/analog/product/218133.jsp
footprint LGA16-3X3X1_N (PQFN, 16-Leads, Body 3x3mm, Pitch 0.5mm, IPC Medium Density)
footprint LGA16-3X3X1_L (PQFN, 16-Leads, Body 3x3mm, Pitch 0.5mm, IPC High Density)
footprint LGA16-3X3X1_M (PQFN, 16-Leads, Body 3x3mm, Pitch 0.5mm, IPC Low Density)
pins: 1 VDD_IO (power), 2 NC, 3 NC, 4 SCL/SPC (in), 5 GND (power), 6 SDA/SDI/SDO (io), 7 SDO/SA0 (out), 8 CS (in), 9 INT2 (out), 10 RES, 11 INT1 (out), 12 GND (power), 13 GND (power), 14 VDD (power), 15 RES, 16 GND (power)

## LIS331DLTR
designator U?
MEMS motion sensor 3-axis - ± 2g/± 8g smart digital output nano accelerometer, -40 to +85°C, LGA-16 (3x3x1), Tape and Reel; Manufacturer: STMicroelectronics; DatasheetVersion: rev3, Apr-2008; PackageVersion: 2008; PackageReference: LGA16-3X3X1; PackageDescription: 16-Pin Land Grid Array, 3 x 3 x 1 mm Body, 0.5 mm Pitch; ComponentLink1Description: Manufacturer URL; ComponentLink1URL: http://www.st.com/; ComponentLink2Description: LIS331DL Datasheet; ComponentLink2URL: http://www.st.com/internet/com/TECHNICAL_RESOURCES/TECHNICAL_LITERATURE/DATASHEET/CD00172345.pdf; ComponentLink3Description: LIS331DL Web Page; ComponentLink3URL: http://www.st.com/internet/analog/product/191236.jsp
footprint LGA16-3X3X1_N (PQFN, 16-Leads, Body 3x3mm, Pitch 0.5mm, IPC Medium Density)
footprint LGA16-3X3X1_L (PQFN, 16-Leads, Body 3x3mm, Pitch 0.5mm, IPC High Density)
footprint LGA16-3X3X1_M (PQFN, 16-Leads, Body 3x3mm, Pitch 0.5mm, IPC Low Density)
pins: 1 VDD_IO (power), 2 NC, 3 NC, 4 SCL/SPC (in), 5 GND (power), 6 SDA/SDI/SDO (io), 7 SDO/SA0 (out), 8 CS (in), 9 INT2 (out), 10 RES, 11 INT1 (out), 12 GND (power), 13 GND (power), 14 VDD (power), 15 RES, 16 GND (power)

## LIS331HH
designator U?
MEMS digital output motion sensor: Ultra low-power high full-scale 3-axes nano accelerometer, -40 to +85°C, LGA-16 (3x3x1), Tray; Manufacturer: STMicroelectronics; DatasheetVersion: rev1, Oct-2009; PackageVersion: 2008; PackageReference: LGA16-3X3X1; PackageDescription: 16-Pin Land Grid Array, 3 x 3 x 1 mm Body, 0.5 mm Pitch; ComponentLink1Description: Manufacturer URL; ComponentLink1URL: http://www.st.com/; ComponentLink2Description: LIS331HH Datasheet; ComponentLink2URL: http://www.st.com/internet/com/TECHNICAL_RESOURCES/TECHNICAL_LITERATURE/DATASHEET/CD00250937.pdf; ComponentLink3Description: LIS331HH Web Page; ComponentLink3URL: http://www.st.com/internet/analog/product/247976.jsp
footprint LGA16-3X3X1_N (PQFN, 16-Leads, Body 3x3mm, Pitch 0.5mm, IPC Medium Density)
footprint LGA16-3X3X1_L (PQFN, 16-Leads, Body 3x3mm, Pitch 0.5mm, IPC High Density)
footprint LGA16-3X3X1_M (PQFN, 16-Leads, Body 3x3mm, Pitch 0.5mm, IPC Low Density)
pins: 1 VDD_IO (power), 2 NC, 3 NC, 4 SCL/SPC (in), 5 GND (power), 6 SDA/SDI/SDO (io), 7 SDO/SA0 (out), 8 CS (in), 9 INT2 (out), 10 RES, 11 INT1 (out), 12 GND (power), 13 GND (power), 14 VDD (power), 15 RES, 16 GND (power)

## LIS331HHTR
designator U?
MEMS digital output motion sensor: Ultra low-power high full-scale 3-axes nano accelerometer, -40 to +85°C, LGA-16 (3x3x1), Tape and Reel; Manufacturer: STMicroelectronics; DatasheetVersion: rev1, Oct-2009; PackageVersion: 2008; PackageReference: LGA16-3X3X1; PackageDescription: 16-Pin Land Grid Array, 3 x 3 x 1 mm Body, 0.5 mm Pitch; ComponentLink1Description: Manufacturer URL; ComponentLink1URL: http://www.st.com/; ComponentLink2Description: LIS331HH Datasheet; ComponentLink2URL: http://www.st.com/internet/com/TECHNICAL_RESOURCES/TECHNICAL_LITERATURE/DATASHEET/CD00250937.pdf; ComponentLink3Description: LIS331HH Web Page; ComponentLink3URL: http://www.st.com/internet/analog/product/247976.jsp
footprint LGA16-3X3X1_N (PQFN, 16-Leads, Body 3x3mm, Pitch 0.5mm, IPC Medium Density)
footprint LGA16-3X3X1_L (PQFN, 16-Leads, Body 3x3mm, Pitch 0.5mm, IPC High Density)
footprint LGA16-3X3X1_M (PQFN, 16-Leads, Body 3x3mm, Pitch 0.5mm, IPC Low Density)
pins: 1 VDD_IO (power), 2 NC, 3 NC, 4 SCL/SPC (in), 5 GND (power), 6 SDA/SDI/SDO (io), 7 SDO/SA0 (out), 8 CS (in), 9 INT2 (out), 10 RES, 11 INT1 (out), 12 GND (power), 13 GND (power), 14 VDD (power), 15 RES, 16 GND (power)

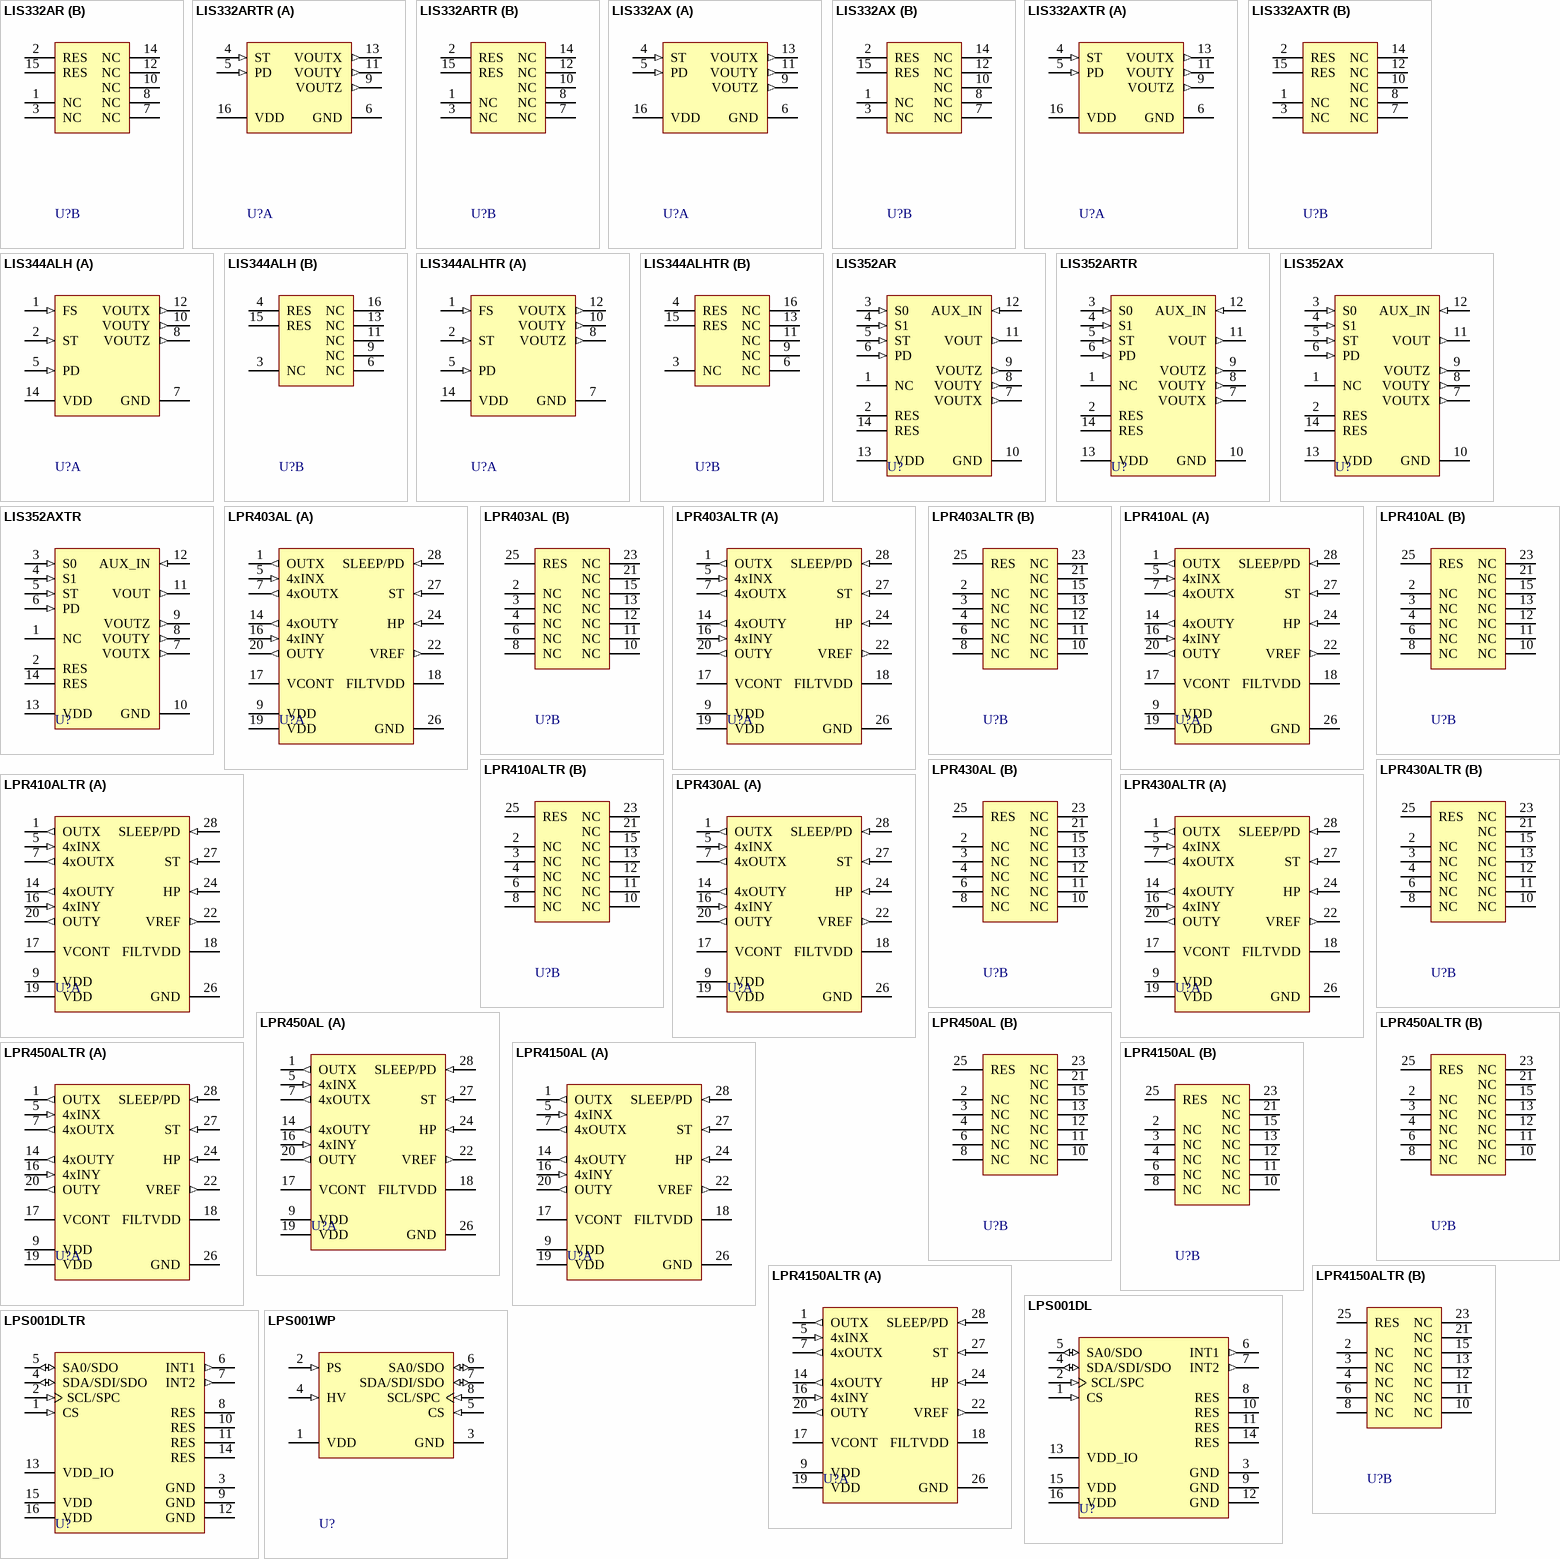
[diagram p1: symbols LIS332AR to LPS001WP]

## LIS332AR
designator U?
MEMS motion sensor: 3-axis ± 2g analog-output ultracompact accelerometer, -40 to +85°C, LGA-16 (3x3x1), Tray; Manufacturer: STMicroelectronics; DatasheetVersion: rev1, Feb-2010; PackageVersion: 2008; PackageReference: LGA16-3X3X1; PackageDescription: 16-Pin Land Grid Array, 3 x 3 x 1 mm Body, 0.5 mm Pitch; ComponentLink1Description: Manufacturer URL; ComponentLink1URL: http://www.st.com/; ComponentLink2Description: LIS332AR Datasheet; ComponentLink2URL: http://www.st.com/internet/com/TECHNICAL_RESOURCES/TECHNICAL_LITERATURE/DATASHEET/CD00259964.pdf; ComponentLink3Description: LIS332AR Web Page; ComponentLink3URL: http://www.st.com/internet/analog/product/250146.jsp
footprint LGA16-3X3X1_N (PQFN, 16-Leads, Body 3x3mm, Pitch 0.5mm, IPC Medium Density)
footprint LGA16-3X3X1_L (PQFN, 16-Leads, Body 3x3mm, Pitch 0.5mm, IPC High Density)
footprint LGA16-3X3X1_M (PQFN, 16-Leads, Body 3x3mm, Pitch 0.5mm, IPC Low Density)
part A pins: 4 ST (in), 5 PD (in), 6 GND (power), 9 VOUTZ (out), 11 VOUTY (out), 13 VOUTX (out), 16 VDD (power)
part B pins: 1 NC, 2 RES, 3 NC, 7 NC, 8 NC, 10 NC, 12 NC, 14 NC, 15 RES

## LIS332ARTR
designator U?
MEMS motion sensor: 3-axis ± 2g analog-output ultracompact accelerometer, -40 to +85°C, LGA-16 (3x3x1), Tape and Reel; Manufacturer: STMicroelectronics; DatasheetVersion: rev1, Feb-2010; PackageVersion: 2008; PackageReference: LGA16-3X3X1; PackageDescription: 16-Pin Land Grid Array, 3 x 3 x 1 mm Body, 0.5 mm Pitch; ComponentLink1Description: Manufacturer URL; ComponentLink1URL: http://www.st.com/; ComponentLink2Description: LIS332AR Datasheet; ComponentLink2URL: http://www.st.com/internet/com/TECHNICAL_RESOURCES/TECHNICAL_LITERATURE/DATASHEET/CD00259964.pdf; ComponentLink3Description: LIS332AR Web Page; ComponentLink3URL: http://www.st.com/internet/analog/product/250146.jsp
footprint LGA16-3X3X1_N (PQFN, 16-Leads, Body 3x3mm, Pitch 0.5mm, IPC Medium Density)
footprint LGA16-3X3X1_L (PQFN, 16-Leads, Body 3x3mm, Pitch 0.5mm, IPC High Density)
footprint LGA16-3X3X1_M (PQFN, 16-Leads, Body 3x3mm, Pitch 0.5mm, IPC Low Density)
part A pins: 4 ST (in), 5 PD (in), 6 GND (power), 9 VOUTZ (out), 11 VOUTY (out), 13 VOUTX (out), 16 VDD (power)
part B pins: 1 NC, 2 RES, 3 NC, 7 NC, 8 NC, 10 NC, 12 NC, 14 NC, 15 RES

## LIS332AX
designator U?
MEMS inertial sensor: 3-axis ± 2g analog-output ultracompact accelerometer, -40 to +85°C, LGA-16 (3x3x1), Tray; Manufacturer: STMicroelectronics; DatasheetVersion: rev1, Feb-2010; PackageVersion: 2008; PackageReference: LGA16-3X3X1; PackageDescription: 16-Pin Land Grid Array, 3 x 3 x 1 mm Body, 0.5 mm Pitch; ComponentLink1Description: Manufacturer URL; ComponentLink1URL: http://www.st.com/; ComponentLink2Description: LIS332AX Datasheet; ComponentLink2URL: http://www.st.com/internet/com/TECHNICAL_RESOURCES/TECHNICAL_LITERATURE/DATASHEET/CD00259970.pdf; ComponentLink3Description: LIS332AX Web Page; ComponentLink3URL: http://www.st.com/internet/analog/product/250148.jsp
footprint LGA16-3X3X1_N (PQFN, 16-Leads, Body 3x3mm, Pitch 0.5mm, IPC Medium Density)
footprint LGA16-3X3X1_L (PQFN, 16-Leads, Body 3x3mm, Pitch 0.5mm, IPC High Density)
footprint LGA16-3X3X1_M (PQFN, 16-Leads, Body 3x3mm, Pitch 0.5mm, IPC Low Density)
part A pins: 4 ST (in), 5 PD (in), 6 GND (power), 9 VOUTZ (out), 11 VOUTY (out), 13 VOUTX (out), 16 VDD (power)
part B pins: 1 NC, 2 RES, 3 NC, 7 NC, 8 NC, 10 NC, 12 NC, 14 NC, 15 RES

## LIS332AXTR
designator U?
MEMS inertial sensor: 3-axis ± 2g analog-output ultracompact accelerometer, -40 to +85°C, LGA-16 (3x3x1), Tape and Reel; Manufacturer: STMicroelectronics; DatasheetVersion: rev1, Feb-2010; PackageVersion: 2008; PackageReference: LGA16-3X3X1; PackageDescription: 16-Pin Land Grid Array, 3 x 3 x 1 mm Body, 0.5 mm Pitch; ComponentLink1Description: Manufacturer URL; ComponentLink1URL: http://www.st.com/; ComponentLink2Description: LIS332AX Datasheet; ComponentLink2URL: http://www.st.com/internet/com/TECHNICAL_RESOURCES/TECHNICAL_LITERATURE/DATASHEET/CD00259970.pdf; ComponentLink3Description: LIS332AX Web Page; ComponentLink3URL: http://www.st.com/internet/analog/product/250148.jsp
footprint LGA16-3X3X1_N (PQFN, 16-Leads, Body 3x3mm, Pitch 0.5mm, IPC Medium Density)
footprint LGA16-3X3X1_L (PQFN, 16-Leads, Body 3x3mm, Pitch 0.5mm, IPC High Density)
footprint LGA16-3X3X1_M (PQFN, 16-Leads, Body 3x3mm, Pitch 0.5mm, IPC Low Density)
part A pins: 4 ST (in), 5 PD (in), 6 GND (power), 9 VOUTZ (out), 11 VOUTY (out), 13 VOUTX (out), 16 VDD (power)
part B pins: 1 NC, 2 RES, 3 NC, 7 NC, 8 NC, 10 NC, 12 NC, 14 NC, 15 RES

## LIS344ALH
designator U?
MEMS inertial sensor: High performance 3-axis ±2/ ±6g ultracompact linear accelerometer, -40 to +85°C, LLGA-16 (4x4x1.5), Tray; Manufacturer: STMicroelectronics; DatasheetVersion: rev3, Apr-2008; PackageVersion: 2008; PackageReference: LGA16-4X4X1.5; PackageDescription: 16-Pin Land Grid Array Package, 4 x 4 x 1.5 mm Body, 0.65 mm Pitch; ComponentLink1Description: Manufacturer URL; ComponentLink1URL: http://www.st.com/; ComponentLink2Description: LIS344ALH Datasheet; ComponentLink2URL: http://www.st.com/internet/com/TECHNICAL_RESOURCES/TECHNICAL_LITERATURE/DATASHEET/CD00182781.pdf; ComponentLink3Description: LIS344ALH Web Page; ComponentLink3URL: http://www.st.com/internet/analog/product/207281.jsp
footprint LGA16-4X4X1.5_N (PQFN, 16-Leads, Body 4x4mm, Pitch 0.65mm, IPC Medium Density)
footprint LGA16-4X4X1.5_L (PQFN, 16-Leads, Body 4x4mm, Pitch 0.65mm, IPC High Density)
footprint LGA16-4X4X1.5_M (PQFN, 16-Leads, Body 4x4mm, Pitch 0.65mm, IPC Low Density)
part A pins: 1 FS (in), 2 ST (in), 5 PD (in), 7 GND (power), 8 VOUTZ (out), 10 VOUTY (out), 12 VOUTX (out), 14 VDD (power)
part B pins: 3 NC, 4 RES, 6 NC, 9 NC, 11 NC, 13 NC, 15 RES, 16 NC

## LIS344ALHTR
designator U?
MEMS inertial sensor: High performance 3-axis ±2/ ±6g ultracompact linear accelerometer, -40 to +85°C, LLGA-16 (4x4x1.5), Tape and Reel; Manufacturer: STMicroelectronics; DatasheetVersion: rev3, Apr-2008; PackageVersion: 2008; PackageReference: LGA16-4X4X1.5; PackageDescription: 16-Pin Land Grid Array Package, 4 x 4 x 1.5 mm Body, 0.65 mm Pitch; ComponentLink1Description: Manufacturer URL; ComponentLink1URL: http://www.st.com/; ComponentLink2Description: LIS344ALH Datasheet; ComponentLink2URL: http://www.st.com/internet/com/TECHNICAL_RESOURCES/TECHNICAL_LITERATURE/DATASHEET/CD00182781.pdf; ComponentLink3Description: LIS344ALH Web Page; ComponentLink3URL: http://www.st.com/internet/analog/product/207281.jsp
footprint LGA16-4X4X1.5_N (PQFN, 16-Leads, Body 4x4mm, Pitch 0.65mm, IPC Medium Density)
footprint LGA16-4X4X1.5_L (PQFN, 16-Leads, Body 4x4mm, Pitch 0.65mm, IPC High Density)
footprint LGA16-4X4X1.5_M (PQFN, 16-Leads, Body 4x4mm, Pitch 0.65mm, IPC Low Density)
part A pins: 1 FS (in), 2 ST (in), 5 PD (in), 7 GND (power), 8 VOUTZ (out), 10 VOUTY (out), 12 VOUTX (out), 14 VDD (power)
part B pins: 3 NC, 4 RES, 6 NC, 9 NC, 11 NC, 13 NC, 15 RES, 16 NC

## LIS352AR
designator U?
MEMS motion sensor: 3-axis ±2 g analog-output piccolo accelerometer , -40 to +85°C, LGA-14 (3x5x1), Tray; Manufacturer: STMicroelectronics; DatasheetVersion: rev1, Feb-2010; PackageVersion: 2011; PackageReference: LGA14-3X5X1; PackageDescription: 14-Lead Land Grid Array Package, 5 x 3 x 1 mm Body, 0.8 mm Pitch; ComponentLink1Description: Manufacturer URL; ComponentLink1URL: http://www.st.com/; ComponentLink2Description: LIS352AR Datasheet; ComponentLink2URL: http://www.st.com/internet/com/TECHNICAL_RESOURCES/TECHNICAL_LITERATURE/DATASHEET/CD00259979.pdf; ComponentLink3Description: LIS352AR Web Page; ComponentLink3URL: http://www.st.com/internet/analog/product/250147.jsp
footprint LGA14-3X5X1_N (PQFN, 14-Leads, Body 3x5mm, Pitch 0.8mm, IPC Medium Density)
footprint LGA14-3X5X1_L (PQFN, 14-Leads, Body 3x5mm, Pitch 0.8mm, IPC High Density)
footprint LGA14-3X5X1_M (PQFN, 14-Leads, Body 3x5mm, Pitch 0.8mm, IPC Low Density)
pins: 1 NC, 2 RES, 3 S0 (in), 4 S1 (in), 5 ST (in), 6 PD (in), 7 VOUTX (out), 8 VOUTY (out), 9 VOUTZ (out), 10 GND (power), 11 VOUT (out), 12 AUX_IN (in), 13 VDD (power), 14 RES

## LIS352ARTR
designator U?
MEMS motion sensor: 3-axis ±2 g analog-output piccolo accelerometer , -40 to +85°C, LGA-14 (3x5x1), Tape and Reel; Manufacturer: STMicroelectronics; DatasheetVersion: rev1, Feb-2010; PackageVersion: 2011; PackageReference: LGA14-3X5X1; PackageDescription: 14-Lead Land Grid Array Package, 5 x 3 x 1 mm Body, 0.8 mm Pitch; ComponentLink1Description: Manufacturer URL; ComponentLink1URL: http://www.st.com/; ComponentLink2Description: LIS352AR Datasheet; ComponentLink2URL: http://www.st.com/internet/com/TECHNICAL_RESOURCES/TECHNICAL_LITERATURE/DATASHEET/CD00259979.pdf; ComponentLink3Description: LIS352AR Web Page; ComponentLink3URL: http://www.st.com/internet/analog/product/250147.jsp
footprint LGA14-3X5X1_N (PQFN, 14-Leads, Body 3x5mm, Pitch 0.8mm, IPC Medium Density)
footprint LGA14-3X5X1_L (PQFN, 14-Leads, Body 3x5mm, Pitch 0.8mm, IPC High Density)
footprint LGA14-3X5X1_M (PQFN, 14-Leads, Body 3x5mm, Pitch 0.8mm, IPC Low Density)
pins: 1 NC, 2 RES, 3 S0 (in), 4 S1 (in), 5 ST (in), 6 PD (in), 7 VOUTX (out), 8 VOUTY (out), 9 VOUTZ (out), 10 GND (power), 11 VOUT (out), 12 AUX_IN (in), 13 VDD (power), 14 RES

## LIS352AX
designator U?
MEMS inertial sensor: 3-axis ±2 g absolute analog output piccolo accelerometer, -40 to +85°C, LGA-14 (3x5x1), Tray; Manufacturer: STMicroelectronics; DatasheetVersion: rev2, Feb-2010; PackageVersion: 2011; PackageReference: LGA14-3X5X1; PackageDescription: 14-Lead Land Grid Array Package, 5 x 3 x 1 mm Body, 0.8 mm Pitch; ComponentLink1Description: Manufacturer URL; ComponentLink1URL: http://www.st.com/; ComponentLink2Description: LIS352AX Datasheet; ComponentLink2URL: http://www.st.com/internet/com/TECHNICAL_RESOURCES/TECHNICAL_LITERATURE/DATASHEET/CD00228915.pdf; ComponentLink3Description: LIS352AX Web Page; ComponentLink3URL: http://www.st.com/internet/analog/product/217385.jsp
footprint LGA14-3X5X1_N (PQFN, 14-Leads, Body 3x5mm, Pitch 0.8mm, IPC Medium Density)
footprint LGA14-3X5X1_L (PQFN, 14-Leads, Body 3x5mm, Pitch 0.8mm, IPC High Density)
footprint LGA14-3X5X1_M (PQFN, 14-Leads, Body 3x5mm, Pitch 0.8mm, IPC Low Density)
pins: 1 NC, 2 RES, 3 S0 (in), 4 S1 (in), 5 ST (in), 6 PD (in), 7 VOUTX (out), 8 VOUTY (out), 9 VOUTZ (out), 10 GND (power), 11 VOUT (out), 12 AUX_IN (in), 13 VDD (power), 14 RES

## LIS352AXTR
designator U?
MEMS inertial sensor: 3-axis ±2 g absolute analog output piccolo accelerometer, -40 to +85°C, LGA-14 (3x5x1), Tape and Reel; Manufacturer: STMicroelectronics; DatasheetVersion: rev2, Feb-2010; PackageVersion: 2011; PackageReference: LGA14-3X5X1; PackageDescription: 14-Lead Land Grid Array Package, 5 x 3 x 1 mm Body, 0.8 mm Pitch; ComponentLink1Description: Manufacturer URL; ComponentLink1URL: http://www.st.com/; ComponentLink2Description: LIS352AX Datasheet; ComponentLink2URL: http://www.st.com/internet/com/TECHNICAL_RESOURCES/TECHNICAL_LITERATURE/DATASHEET/CD00228915.pdf; ComponentLink3Description: LIS352AX Web Page; ComponentLink3URL: http://www.st.com/internet/analog/product/217385.jsp
footprint LGA14-3X5X1_N (PQFN, 14-Leads, Body 3x5mm, Pitch 0.8mm, IPC Medium Density)
footprint LGA14-3X5X1_L (PQFN, 14-Leads, Body 3x5mm, Pitch 0.8mm, IPC High Density)
footprint LGA14-3X5X1_M (PQFN, 14-Leads, Body 3x5mm, Pitch 0.8mm, IPC Low Density)
pins: 1 NC, 2 RES, 3 S0 (in), 4 S1 (in), 5 ST (in), 6 PD (in), 7 VOUTX (out), 8 VOUTY (out), 9 VOUTZ (out), 10 GND (power), 11 VOUT (out), 12 AUX_IN (in), 13 VDD (power), 14 RES

## LPR403AL
designator U?
MEMS motion sensor: dual-axis pitch and roll ± 30 dps analog gyroscope, -40 to +85°C, LGA-28 (4x5x1), Tray; Manufacturer: STMicroelectronics; DatasheetVersion: rev1, Oct-2009; PackageVersion: 2009; PackageReference: LGA28-4X5X1.1; PackageDescription: 28-Lead Land Grid Array Package, 4 x 5 x 1 mm Body, 0.5 mm Pitch; ComponentLink1Description: Manufacturer URL; ComponentLink1URL: http://www.st.com/; ComponentLink2Description: LPR403AL Datasheet; ComponentLink2URL: http://www.st.com/internet/com/TECHNICAL_RESOURCES/TECHNICAL_LITERATURE/DATASHEET/CD00254121.pdf; ComponentLink3Description: LPR403AL Web Page; ComponentLink3URL: http://www.st.com/internet/analog/product/248620.jsp
footprint LGA28-4X5X1.1_N (PQFN, 28-Leads, Body 5x4mm, Pitch 0.5mm, IPC Medium Density)
footprint LGA28-4X5X1.1_L (PQFN, 28-Leads, Body 5x4mm, Pitch 0.5mm, IPC High Density)
footprint LGA28-4X5X1.1_M (PQFN, 28-Leads, Body 5x4mm, Pitch 0.5mm, IPC Low Density)
part A pins: 1 OUTX (out), 5 4xINX (in), 7 4xOUTX (out), 9 VDD (power), 14 4xOUTY (out), 16 4xINY (in), 17 VCONT, 18 FILTVDD, 19 VDD (power), 20 OUTY (out), 22 VREF (out), 24 HP (in), 26 GND (power), 27 ST (in), 28 SLEEP/PD (in)
part B pins: 2 NC, 3 NC, 4 NC, 6 NC, 8 NC, 10 NC, 11 NC, 12 NC, 13 NC, 15 NC, 21 NC, 23 NC, 25 RES

## LPR403ALTR
designator U?
MEMS motion sensor: dual-axis pitch and roll ± 30 dps analog gyroscope, -40 to +85°C, LGA-28 (4x5x1), Tape and Reel; Manufacturer: STMicroelectronics; DatasheetVersion: rev1, Oct-2009; PackageVersion: 2009; PackageReference: LGA28-4X5X1.1; PackageDescription: 28-Lead Land Grid Array Package, 4 x 5 x 1 mm Body, 0.5 mm Pitch; ComponentLink1Description: Manufacturer URL; ComponentLink1URL: http://www.st.com/; ComponentLink2Description: LPR403AL Datasheet; ComponentLink2URL: http://www.st.com/internet/com/TECHNICAL_RESOURCES/TECHNICAL_LITERATURE/DATASHEET/CD00254121.pdf; ComponentLink3Description: LPR403AL Web Page; ComponentLink3URL: http://www.st.com/internet/analog/product/248620.jsp
footprint LGA28-4X5X1.1_N (PQFN, 28-Leads, Body 5x4mm, Pitch 0.5mm, IPC Medium Density)
footprint LGA28-4X5X1.1_L (PQFN, 28-Leads, Body 5x4mm, Pitch 0.5mm, IPC High Density)
footprint LGA28-4X5X1.1_M (PQFN, 28-Leads, Body 5x4mm, Pitch 0.5mm, IPC Low Density)
part A pins: 1 OUTX (out), 5 4xINX (in), 7 4xOUTX (out), 9 VDD (power), 14 4xOUTY (out), 16 4xINY (in), 17 VCONT, 18 FILTVDD, 19 VDD (power), 20 OUTY (out), 22 VREF (out), 24 HP (in), 26 GND (power), 27 ST (in), 28 SLEEP/PD (in)
part B pins: 2 NC, 3 NC, 4 NC, 6 NC, 8 NC, 10 NC, 11 NC, 12 NC, 13 NC, 15 NC, 21 NC, 23 NC, 25 RES